# EAGLE library part MAX417ESA+ (library BQ25504)
Maxim Dual Single Supply Op Amp
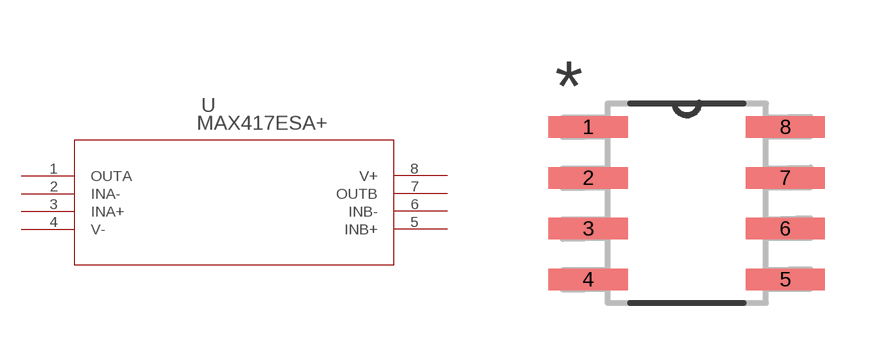
[diagram p46: symbol with the pads of 21-0041B_8; footprint 21-0041B_8]

Designator prefix U

## MAX417ESA+ (MANUFACTURER: MAXIM; MPN: max417esa+)  [21-0041B_8]
1  OUTA  out
2  INA-  in
3  INA+  in
4  V-  pwr
5  INB+  in
6  INB-  in
7  OUTB  out
8  V+  pwr

## Footprint 21-0041B_8 (pad centres in mm)
smd 1.981 x 0.533: 1 -2.464,1.905; 2 -2.464,0.635; 3 -2.464,-0.635; 4 -2.464,-1.905; 5 2.464,-1.905; 6 2.464,-0.635; 7 2.464,0.635; 8 2.464,1.905